# Altium footprint library PBK-3-5.PcbLib: 5 footprints
Each footprint in its own frame and in the unit in brackets; x right, y up, seen from the top. Pads: shape width x height; smd on the part's side, far side on the other; paste and mask are expansions set on the pad; w line width, h text height; cw(c..) or ccw(c..) is an arc to the next point about the centre after c.
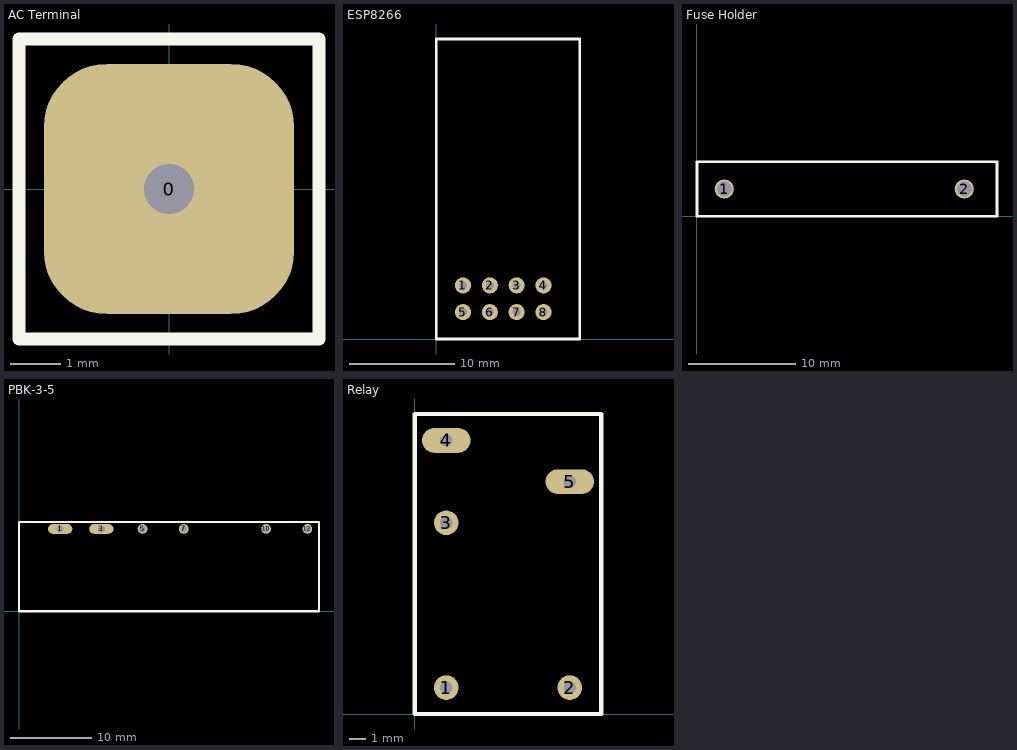
[diagram p0: the footprints below, top view; thin cyan lines are the x and y axes]

## AC Terminal [mm]
pads (1):
  rrect50% 5x5 hole 1: 0(0,0)
Top Overlay:
  lines w0.254: -3,-3 3,-3 3,3 -3,3 -3,-3

## ESP8266 [mil]
pads (8):
  round 60 hole 30: 1(100,200) 2(200,200) 3(300,200) 4(400,200) 5(100,100) 6(200,100) 7(300,100) 8(400,100)
Top Overlay:
  lines w10: 0,0 0,1118.11 535.43,1118.11 535.43,15.75 535.43,0 0,0

## Fuse Holder [mil] "5mm x 20mm"
pads (2):
  round 70 hole 55: 1(100,100) 2(980,100)
Top Overlay:
  lines w10: 0,0 0,200 1100,200 1100,0 0,0

## PBK-3-5 [mm] "120Vac to 5VDC"
pads (6):
  oval 3x1.2 hole 0.85: 1(5.08,10.16) 3(10.16,10.16)
  round 1.2 hole 0.85: 5(15.24,10.16) 7(20.32,10.16) 10(30.48,10.16) 12(35.56,10.16)
Top Overlay:
  lines w0.254: 0,0 37,0 37,11 0,11 0,0

## Relay [mil]
pads (5):
  round 60 hole 30: 1(76.38,64.17) 2(376.38,64.17) 3(76.38,464.17)
  oval 118.11x60 hole 30: 4(76.38,664.17) 5(376.38,564.17)
Top Overlay:
  lines w10: 0,0 0,728.35 452.76,728.35 452.76,0 0,0